# Altium footprint library ENMR-QFN64_N.PcbLib: 1 footprints
Each footprint in its own frame and in the unit in brackets; x right, y up, seen from the top. Pads: shape width x height; smd on the part's side, far side on the other; paste and mask are expansions set on the pad; w line width, h text height; cw(c..) or ccw(c..) is an arc to the next point about the centre after c.
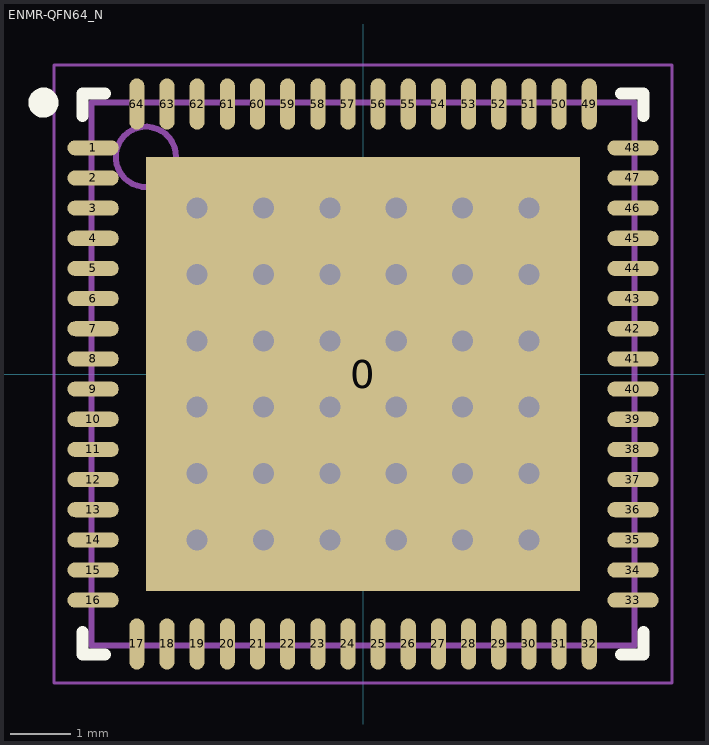
[diagram p0: the footprint, top view; thin cyan lines are the x and y axes]

## ENMR-QFN64_N [mm] "QFN, 64-Leads, Body 9x9mm, Pitch 0.5mm, IPC Medium Density"
height 0.9
pads (65):
  rect 7.2x7.2 smd: 0(0,0)
  oval 0.85x0.25 smd: 1(-4.475,3.75) 2(-4.475,3.25) 3(-4.475,2.75) 4(-4.475,2.25) 5(-4.475,1.75) 6(-4.475,1.25) 7(-4.475,0.75) 8(-4.475,0.25) 9(-4.475,-0.25) 10(-4.475,-0.75) 11(-4.475,-1.25) 12(-4.475,-1.75) 13(-4.475,-2.25) 14(-4.475,-2.75) 15(-4.475,-3.25) 16(-4.475,-3.75) 33(4.475,-3.75) 34(4.475,-3.25) 35(4.475,-2.75) 36(4.475,-2.25) 37(4.475,-1.75) 38(4.475,-1.25) 39(4.475,-0.75) 40(4.475,-0.25) 41(4.475,0.25) 42(4.475,0.75) 43(4.475,1.25) 44(4.475,1.75) 45(4.475,2.25) 46(4.475,2.75) 47(4.475,3.25) 48(4.475,3.75)
  oval 0.25x0.85 smd: 17(-3.75,-4.475) 18(-3.25,-4.475) 19(-2.75,-4.475) 20(-2.25,-4.475) 21(-1.75,-4.475) 22(-1.25,-4.475) 23(-0.75,-4.475) 24(-0.25,-4.475) 25(0.25,-4.475) 26(0.75,-4.475) 27(1.25,-4.475) 28(1.75,-4.475) 29(2.25,-4.475) 30(2.75,-4.475) 31(3.25,-4.475) 32(3.75,-4.475) 49(3.75,4.475) 50(3.25,4.475) 51(2.75,4.475) 52(2.25,4.475) 53(1.75,4.475) 54(1.25,4.475) 55(0.75,4.475) 56(0.25,4.475) 57(-0.25,4.475) 58(-0.75,4.475) 59(-1.25,4.475) 60(-1.75,4.475) 61(-2.25,4.475) 62(-2.75,4.475) 63(-3.25,4.475) 64(-3.75,4.475)
via 2.75,-2.75 diameter 0.8 hole 0.35
via 1.65,-2.75 diameter 0.8 hole 0.35
via 0.55,-2.75 diameter 0.8 hole 0.35
via -0.55,-2.75 diameter 0.8 hole 0.35
via -1.65,-2.75 diameter 0.8 hole 0.35
via -2.75,-2.75 diameter 0.8 hole 0.35
via 2.75,-1.65 diameter 0.8 hole 0.35
via 1.65,-1.65 diameter 0.8 hole 0.35
via 0.55,-1.65 diameter 0.8 hole 0.35
via -0.55,-1.65 diameter 0.8 hole 0.35
via -1.65,-1.65 diameter 0.8 hole 0.35
via -2.75,-1.65 diameter 0.8 hole 0.35
via 2.75,-0.55 diameter 0.8 hole 0.35
via 1.65,-0.55 diameter 0.8 hole 0.35
via 0.55,-0.55 diameter 0.8 hole 0.35
via -0.55,-0.55 diameter 0.8 hole 0.35
via -1.65,-0.55 diameter 0.8 hole 0.35
via -2.75,-0.55 diameter 0.8 hole 0.35
via 2.75,0.55 diameter 0.8 hole 0.35
via 1.65,0.55 diameter 0.8 hole 0.35
via 0.55,0.55 diameter 0.8 hole 0.35
via -0.55,0.55 diameter 0.8 hole 0.35
via -1.65,0.55 diameter 0.8 hole 0.35
via -2.75,0.55 diameter 0.8 hole 0.35
via 2.75,1.65 diameter 0.8 hole 0.35
via 1.65,1.65 diameter 0.8 hole 0.35
via 0.55,1.65 diameter 0.8 hole 0.35
via -0.55,1.65 diameter 0.8 hole 0.35
via -1.65,1.65 diameter 0.8 hole 0.35
via -2.75,1.65 diameter 0.8 hole 0.35
via 2.75,2.75 diameter 0.8 hole 0.35
via 1.65,2.75 diameter 0.8 hole 0.35
via 0.55,2.75 diameter 0.8 hole 0.35
via -0.55,2.75 diameter 0.8 hole 0.35
via -1.65,2.75 diameter 0.8 hole 0.35
via -2.75,2.75 diameter 0.8 hole 0.35
Top Overlay:
  circle w0.25: c-5.3,4.5 r0.125
  lines w0.2: -4.65,-4.275 -4.65,-4.65 -4.275,-4.65 ; -4.65,4.275 -4.65,4.65 -4.275,4.65 ; 4.275,-4.65 4.65,-4.65 4.65,-4.275 ; 4.275,4.65 4.65,4.65 4.65,4.275
Top Comp Body:
  circle w0.1: c-3.6,3.6 r0.5
  lines w0.1: -4.5,-4.5 4.5,-4.5 4.5,4.5 -4.5,4.5 -4.5,-4.5
Top Courtyard:
  lines w0.05: -5.125,-5.125 5.125,-5.125 5.125,5.125 -5.125,5.125 -5.125,-5.125
  lines w0.1: -0.5,0 0.5,0 ; 0,-0.5 0,0.5
3D body: height 0.9, standoff 0, extent -4.5,-4.5 4.5,4.5